# Altium footprint library 2020-03-27_02-06-16.PcbLib: 3 footprints
Each footprint in its own frame and in the unit in brackets; x right, y up, seen from the top. Pads: shape width x height; smd on the part's side, far side on the other; paste and mask are expansions set on the pad; w line width, h text height; cw(c..) or ccw(c..) is an arc to the next point about the centre after c.
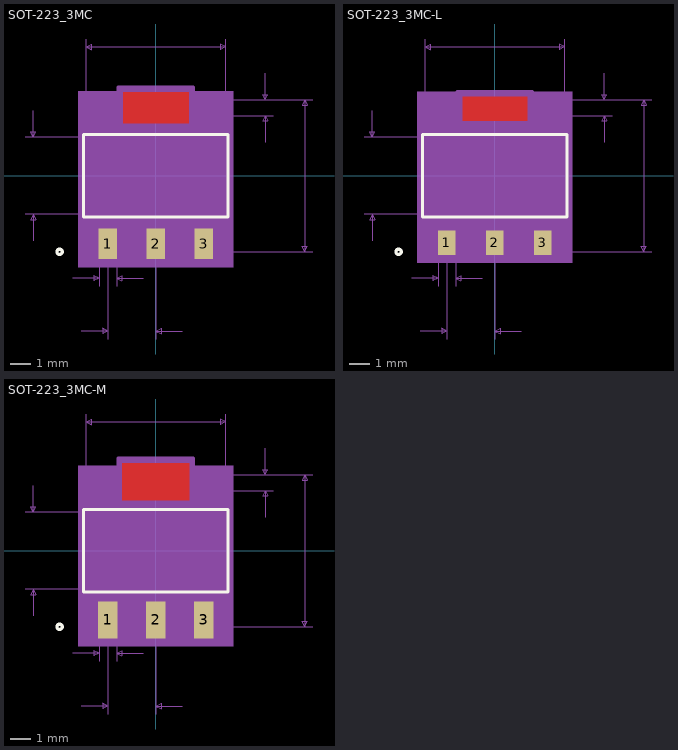
[diagram p0: the footprints below, top view; thin cyan lines are the x and y axes]

## SOT-223_3MC [mil]
pads (3):
  rect 35x58 smd paste+0 mask+0: 1(-90.55,-128.7) 2(0,-128.7) 3(90.55,-128.7)
Top Layer:
  region: 62,99.7 62,157.7 -62,157.7 -62,99.7
Top Overlay:
  circle w6: c-181.89,-143.7 r5
  lines w6: -136.89,-77.83 136.89,-77.83 136.89,77.83 -136.89,77.83 -136.89,-77.83
Top Paste:
  region: 62,99.7 62,157.7 -62,157.7 -62,99.7
Top Solder:
  region: 63,85.7 63,171.7 -63,171.7 -63,85.7
Mechanical 5:
  region: -146.89,159.7 146.89,159.7 146.89,-172.7 -146.89,-172.7
Mechanical 7:
  lines w1: -246.89,-72.83 0,-72.83 ; -246.89,72.83 0,72.83 ; -231.89,-122.83 -231.89,-72.83 ; -231.89,122.83 -231.89,72.83 ; -157.05,-193.7 -107.05,-193.7 ; -140.55,-293.7 -90.55,-293.7 ; -131.89,72.83 -131.89,258.7 ; -107.05,-208.7 -107.05,-143.7 ; -90.55,-308.7 -90.55,-143.7 ; -74.05,-208.7 -74.05,-143.7 ; -24.05,-193.7 -74.05,-193.7 ; 0,-308.7 0,-143.7 296.89,-143.7 ; 0,113.7 221.89,113.7 ; 50,-293.7 0,-293.7 ; 131.89,72.83 131.89,258.7 ; 206.89,63.7 206.89,113.7 ; 206.89,193.7 206.89,143.7 ; 221.89,143.7 0,143.7 296.89,143.7 ; -231.89,-72.83 -236.89,-82.83 -226.89,-82.83 -231.89,-72.83 ; -231.89,72.83 -236.89,82.83 -226.89,82.83 -231.89,72.83 ; -131.89,243.7 131.89,243.7 ; -131.89,243.7 -121.89,248.7 -121.89,238.7 -131.89,243.7 ; -107.05,-193.7 -117.05,-188.7 -117.05,-198.7 -107.05,-193.7 ; -90.55,-293.7 -100.55,-288.7 -100.55,-298.7 -90.55,-293.7 ; -74.05,-193.7 -64.05,-188.7 -64.05,-198.7 -74.05,-193.7 ; 0,-293.7 10,-288.7 10,-298.7 0,-293.7 ; 131.89,243.7 121.89,248.7 121.89,238.7 131.89,243.7 ; 206.89,113.7 201.89,103.7 211.89,103.7 206.89,113.7 ; 206.89,143.7 201.89,153.7 211.89,153.7 206.89,143.7 ; 281.89,-143.7 281.89,143.7 ; 281.89,-143.7 276.89,-133.7 286.89,-133.7 281.89,-143.7 ; 281.89,143.7 276.89,133.7 286.89,133.7 281.89,143.7
  text "Default Pin Padstyle: r89_147" at -362.5,-457.7 h50
  text "Alt 1 Padstyle: b152_229h76" at -337.5,-507.7 h50
  text "Alt 2 Padstyle: b229_152h76" at -337.5,-557.7 h50
  text "0.287in/7.3mm" at 301.89,-12.5 h25
  text "0.03in/0.762mm" at 226.89,116.2 h25
  text "0.091in/2.3mm" at -126.53,-338.7 h25
  text "0.033in/0.838mm" at -184.3,-238.7 h25
  text "0.264in/6.7mm" at -81.25,263.7 h25
  text "0.146in/3.7mm" at -414.39,-12.5 h25
Mechanical 13:
  circle w0: c-121.89,-62.83 r5
  lines w1: -131.89,-72.83 131.89,-72.83 131.89,72.83 -131.89,72.83 -131.89,-72.83 ; -107.05,-143.7 -107.05,-72.83 -74.05,-72.83 -74.05,-143.7 -107.05,-143.7 ; -61,72.83 61,72.83 61,143.7 -61,143.7 -61,72.83 ; -16.5,-143.7 -16.5,-72.83 16.5,-72.83 16.5,-143.7 -16.5,-143.7 ; 74.05,-143.7 74.05,-72.83 107.05,-72.83 107.05,-143.7 74.05,-143.7
Mechanical 15:
  region: -141.89,-82.83 -141.89,82.83 -71,82.83 -71,167.7 71,167.7 71,82.83 141.89,82.83 141.89,-82.83 117.05,-82.83 117.05,-167.7 -117.05,-167.7 -117.05,-82.83
  lines w6: -141.89,-82.83 -141.89,82.83 -71,82.83 -71,167.7 71,167.7 71,82.83 141.89,82.83 141.89,-82.83 117.05,-82.83 117.05,-167.7 -117.05,-167.7 -117.05,-82.83 -141.89,-82.83
3D body: height 10, standoff 0, extent 0,0 10,10

## SOT-223_3MC-L [mil]
pads (3):
  rect 33x46 smd paste+0 mask+0: 1(-90.55,-126.7) 2(0,-126.7) 3(90.55,-126.7)
Top Layer:
  region: 61,103.7 61,149.7 -61,149.7 -61,103.7
Top Overlay:
  circle w6: c-181.89,-143.7 r5
  lines w6: -136.89,-77.83 136.89,-77.83 136.89,77.83 -136.89,77.83 -136.89,-77.83
Top Paste:
  region: 61,103.7 61,149.7 -61,149.7 -61,103.7
Top Solder:
  region: 61,93.7 61,155.7 -61,155.7 -61,93.7
Mechanical 5:
  region: -146.89,158.7 146.89,158.7 146.89,-164.7 -146.89,-164.7
Mechanical 7:
  lines w1: -246.89,-72.83 0,-72.83 ; -246.89,72.83 0,72.83 ; -231.89,-122.83 -231.89,-72.83 ; -231.89,122.83 -231.89,72.83 ; -157.05,-193.7 -107.05,-193.7 ; -140.55,-293.7 -90.55,-293.7 ; -131.89,72.83 -131.89,258.7 ; -107.05,-208.7 -107.05,-143.7 ; -90.55,-308.7 -90.55,-143.7 ; -74.05,-208.7 -74.05,-143.7 ; -24.05,-193.7 -74.05,-193.7 ; 0,-308.7 0,-143.7 296.89,-143.7 ; 0,113.7 221.89,113.7 ; 50,-293.7 0,-293.7 ; 131.89,72.83 131.89,258.7 ; 206.89,63.7 206.89,113.7 ; 206.89,193.7 206.89,143.7 ; 221.89,143.7 0,143.7 296.89,143.7 ; -231.89,-72.83 -236.89,-82.83 -226.89,-82.83 -231.89,-72.83 ; -231.89,72.83 -236.89,82.83 -226.89,82.83 -231.89,72.83 ; -131.89,243.7 131.89,243.7 ; -131.89,243.7 -121.89,248.7 -121.89,238.7 -131.89,243.7 ; -107.05,-193.7 -117.05,-188.7 -117.05,-198.7 -107.05,-193.7 ; -90.55,-293.7 -100.55,-288.7 -100.55,-298.7 -90.55,-293.7 ; -74.05,-193.7 -64.05,-188.7 -64.05,-198.7 -74.05,-193.7 ; 0,-293.7 10,-288.7 10,-298.7 0,-293.7 ; 131.89,243.7 121.89,248.7 121.89,238.7 131.89,243.7 ; 206.89,113.7 201.89,103.7 211.89,103.7 206.89,113.7 ; 206.89,143.7 201.89,153.7 211.89,153.7 206.89,143.7 ; 281.89,-143.7 281.89,143.7 ; 281.89,-143.7 276.89,-133.7 286.89,-133.7 281.89,-143.7 ; 281.89,143.7 276.89,133.7 286.89,133.7 281.89,143.7
  text "Default Pin Padstyle: r84_117" at -362.5,-449.7 h50
  text "Alt 1 Padstyle: b152_229h76" at -337.5,-499.7 h50
  text "Alt 2 Padstyle: b229_152h76" at -337.5,-549.7 h50
  text "0.287in/7.3mm" at 301.89,-12.5 h25
  text "0.03in/0.762mm" at 226.89,116.2 h25
  text "0.091in/2.3mm" at -126.53,-338.7 h25
  text "0.033in/0.838mm" at -184.3,-238.7 h25
  text "0.264in/6.7mm" at -81.25,263.7 h25
  text "0.146in/3.7mm" at -414.39,-12.5 h25
Mechanical 13:
  circle w0: c-121.89,-62.83 r5
  lines w1: -131.89,-72.83 131.89,-72.83 131.89,72.83 -131.89,72.83 -131.89,-72.83 ; -107.05,-143.7 -107.05,-72.83 -74.05,-72.83 -74.05,-143.7 -107.05,-143.7 ; -61,72.83 61,72.83 61,143.7 -61,143.7 -61,72.83 ; -16.5,-143.7 -16.5,-72.83 16.5,-72.83 16.5,-143.7 -16.5,-143.7 ; 74.05,-143.7 74.05,-72.83 107.05,-72.83 107.05,-143.7 74.05,-143.7
Mechanical 15:
  region: -141.89,-82.83 -141.89,82.83 -71,82.83 -71,159.7 71,159.7 71,82.83 141.89,82.83 141.89,-82.83 117.05,-82.83 117.05,-159.7 -117.05,-159.7 -117.05,-82.83
  lines w6: -141.89,-82.83 -141.89,82.83 -71,82.83 -71,159.7 71,159.7 71,82.83 141.89,82.83 141.89,-82.83 117.05,-82.83 117.05,-159.7 -117.05,-159.7 -117.05,-82.83 -141.89,-82.83
3D body: height 10, standoff 0, extent 0,0 10,10

## SOT-223_3MC-M [mil]
pads (3):
  rect 37x70 smd paste+0 mask+0: 1(-90.55,-130.7) 2(0,-130.7) 3(90.55,-130.7)
Top Layer:
  region: 63,95.7 63,165.7 -63,165.7 -63,95.7
Top Overlay:
  circle w6: c-181.89,-143.7 r5
  lines w6: -136.89,-77.83 136.89,-77.83 136.89,77.83 -136.89,77.83 -136.89,-77.83
Top Paste:
  region: 63,95.7 63,165.7 -63,165.7 -63,95.7
Top Solder:
  region: 65,77.7 65,187.7 -65,187.7 -65,77.7
Mechanical 5:
  region: -146.89,160.7 146.89,160.7 146.89,-180.7 -146.89,-180.7
Mechanical 7:
  lines w1: -246.89,-72.83 0,-72.83 ; -246.89,72.83 0,72.83 ; -231.89,-122.83 -231.89,-72.83 ; -231.89,122.83 -231.89,72.83 ; -157.05,-193.7 -107.05,-193.7 ; -140.55,-293.7 -90.55,-293.7 ; -131.89,72.83 -131.89,258.7 ; -107.05,-208.7 -107.05,-143.7 ; -90.55,-308.7 -90.55,-143.7 ; -74.05,-208.7 -74.05,-143.7 ; -24.05,-193.7 -74.05,-193.7 ; 0,-308.7 0,-143.7 296.89,-143.7 ; 0,113.7 221.89,113.7 ; 50,-293.7 0,-293.7 ; 131.89,72.83 131.89,258.7 ; 206.89,63.7 206.89,113.7 ; 206.89,193.7 206.89,143.7 ; 221.89,143.7 0,143.7 296.89,143.7 ; -231.89,-72.83 -236.89,-82.83 -226.89,-82.83 -231.89,-72.83 ; -231.89,72.83 -236.89,82.83 -226.89,82.83 -231.89,72.83 ; -131.89,243.7 131.89,243.7 ; -131.89,243.7 -121.89,248.7 -121.89,238.7 -131.89,243.7 ; -107.05,-193.7 -117.05,-188.7 -117.05,-198.7 -107.05,-193.7 ; -90.55,-293.7 -100.55,-288.7 -100.55,-298.7 -90.55,-293.7 ; -74.05,-193.7 -64.05,-188.7 -64.05,-198.7 -74.05,-193.7 ; 0,-293.7 10,-288.7 10,-298.7 0,-293.7 ; 131.89,243.7 121.89,248.7 121.89,238.7 131.89,243.7 ; 206.89,113.7 201.89,103.7 211.89,103.7 206.89,113.7 ; 206.89,143.7 201.89,153.7 211.89,153.7 206.89,143.7 ; 281.89,-143.7 281.89,143.7 ; 281.89,-143.7 276.89,-133.7 286.89,-133.7 281.89,-143.7 ; 281.89,143.7 276.89,133.7 286.89,133.7 281.89,143.7
  text "Default Pin Padstyle: r94_178" at -362.5,-465.7 h50
  text "Alt 1 Padstyle: b152_229h76" at -337.5,-515.7 h50
  text "Alt 2 Padstyle: b229_152h76" at -337.5,-565.7 h50
  text "0.287in/7.3mm" at 301.89,-12.5 h25
  text "0.03in/0.762mm" at 226.89,116.2 h25
  text "0.091in/2.3mm" at -126.53,-338.7 h25
  text "0.033in/0.838mm" at -184.3,-238.7 h25
  text "0.264in/6.7mm" at -81.25,263.7 h25
  text "0.146in/3.7mm" at -414.39,-12.5 h25
Mechanical 13:
  circle w0: c-121.89,-62.83 r5
  lines w1: -131.89,-72.83 131.89,-72.83 131.89,72.83 -131.89,72.83 -131.89,-72.83 ; -107.05,-143.7 -107.05,-72.83 -74.05,-72.83 -74.05,-143.7 -107.05,-143.7 ; -61,72.83 61,72.83 61,143.7 -61,143.7 -61,72.83 ; -16.5,-143.7 -16.5,-72.83 16.5,-72.83 16.5,-143.7 -16.5,-143.7 ; 74.05,-143.7 74.05,-72.83 107.05,-72.83 107.05,-143.7 74.05,-143.7
Mechanical 15:
  region: -141.89,-82.83 -141.89,82.83 -71,82.83 -71,175.7 71,175.7 71,82.83 141.89,82.83 141.89,-82.83 117.05,-82.83 117.05,-175.7 -117.05,-175.7 -117.05,-82.83
  lines w6: -141.89,-82.83 -141.89,82.83 -71,82.83 -71,175.7 71,175.7 71,82.83 141.89,82.83 141.89,-82.83 117.05,-82.83 117.05,-175.7 -117.05,-175.7 -117.05,-82.83 -141.89,-82.83
3D body: height 10, standoff 0, extent 0,0 10,10